# Altium integrated library ON Semi IGBTs.IntLib: 53 symbols (part 2 of 2)
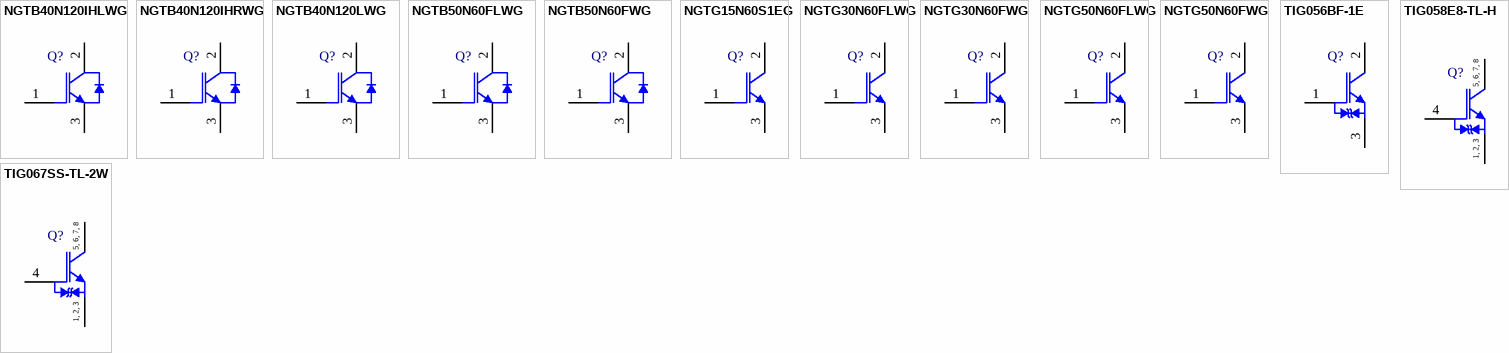
[diagram p2: symbols NGTB40N120IHLWG to TIG067SS-TL-2W]

## NGTG30N60FLWG
designator Q?
IGBT, 30 A, 600 V, 3-Pin TO-247, Pb-Free, Tube; Manufacturer: On Semiconductor; PartNumber: NGTG30N60FLWG; DatasheetVersion: Rev. 2; PackageVersion: Rev. F, 10/2011; PackageReference: TO-247-3-340L-02; PackageDescription: 3-Pin Flange Mount, Vertical Straight Lead, Body 16.005 x 5 mm, Pitch 5.45 mm; Supplier 1: Digi-Key; Supplier Part Number 1: NGTG30N60FLWGOS-ND; Supplier 2: Farnell; Supplier Part Number 2: 2321661; Supplier 3: Newark; Supplier Part Number 3: 90W9279; Supplier 4: Newark; Supplier Part Number 4: 72W2261; Supplier 5: Mouser; Supplier Part Number 5: 863-NGTG30N60FLWG; Packing: Tube; RoHS: Pb-Free; Mounting Technology: Through Hole; ComponentLink1Description: Manufacturer URL; ComponentLink1URL: http://www.onsemi.com/; ComponentLink2Description: Datasheet; ComponentLink2URL: http://www.onsemi.com/pub_link/Collateral/NGTG30N60FLW-D.PDF; ComponentLink3Description: Package Specification; ComponentLink3URL: http://www.onsemi.cn/pub_link/Collateral/340L-02.PDF
footprint ONSC-TO-247-3-340L-02 (FM, 3-Leads, Body 16.3x5.3mm, Pitch 5.45mm)
pins: 1 G, 2 C, 3 E

## NGTG30N60FWG
designator Q?
IGBT, 30 A, 600 V, 3-Pin TO-247, Pb-Free, Tube; Manufacturer: On Semiconductor; PartNumber: NGTG30N60FWG; DatasheetVersion: Rev. 0; PackageVersion: Rev. F, 10/2011; PackageReference: TO-247-3-340L-02; PackageDescription: 3-Pin Flange Mount, Vertical Straight Lead, Body 16.005 x 5 mm, Pitch 5.45 mm; Supplier 1: Digi-Key; Supplier Part Number 1: NGTG30N60FWGOS-ND; Supplier 2: Farnell; Supplier Part Number 2: 2321662; Supplier 3: Newark; Supplier Part Number 3: 90W9280; Supplier 4: Newark; Supplier Part Number 4: 72W2262; Supplier 5: Mouser; Supplier Part Number 5: 863-NGTG30N60FWG; Packing: Tube; RoHS: Pb-Free; Mounting Technology: Through Hole; ComponentLink1Description: Manufacturer URL; ComponentLink1URL: http://www.onsemi.com/; ComponentLink2Description: Datasheet; ComponentLink2URL: http://www.onsemi.com/pub_link/Collateral/NGTG30N60FW.PDF; ComponentLink3Description: Package Specification; ComponentLink3URL: http://www.onsemi.cn/pub_link/Collateral/340L-02.PDF
footprint ONSC-TO-247-3-340L-02 (FM, 3-Leads, Body 16.3x5.3mm, Pitch 5.45mm)
pins: 1 G, 2 C, 3 E

## NGTG50N60FLWG
designator Q?
IGBT, 50 A, 600 V, 3-Pin TO-247, Pb-Free, Tube; Manufacturer: On Semiconductor; PartNumber: NGTG50N60FLWG; DatasheetVersion: Rev. 0; PackageVersion: Rev. F, 10/2011; PackageReference: TO-247-3-340L-02; PackageDescription: 3-Pin Flange Mount, Vertical Straight Lead, Body 16.005 x 5 mm, Pitch 5.45 mm; Supplier 1: Farnell; Supplier Part Number 1: 2321653; Supplier 2: Newark; Supplier Part Number 2: 90W9281; Supplier 3: Newark; Supplier Part Number 3: 60W1764; Supplier 4: Mouser; Supplier Part Number 4: 863-NGTG50N60FLWG; Packing: Tube; RoHS: Pb-Free; Mounting Technology: Through Hole; ComponentLink1Description: Manufacturer URL; ComponentLink1URL: http://www.onsemi.com/; ComponentLink2Description: Datasheet; ComponentLink2URL: http://www.onsemi.com/pub_link/Collateral/NGTG50N60FLW-D.PDF; ComponentLink3Description: Package Specification; ComponentLink3URL: http://www.onsemi.cn/pub_link/Collateral/340L-02.PDF
footprint ONSC-TO-247-3-340L-02 (FM, 3-Leads, Body 16.3x5.3mm, Pitch 5.45mm)
pins: 1 G, 2 C, 3 E

## NGTG50N60FWG
designator Q?
IGBT, 50 A, 600 V, 3-Pin TO-247, Pb-Free, Tube; Manufacturer: On Semiconductor; PartNumber: NGTG50N60FWG; DatasheetVersion: Rev. 0; PackageVersion: Rev. F, 10/2011; PackageReference: TO-247-3-340L-02; PackageDescription: 3-Pin Flange Mount, Vertical Straight Lead, Body 16.005 x 5 mm, Pitch 5.45 mm; Supplier 1: Digi-Key; Supplier Part Number 1: NGTG50N60FWGOS-ND; Supplier 2: Farnell; Supplier Part Number 2: 2321654; Supplier 3: Newark; Supplier Part Number 3: 90W9282; Supplier 4: Newark; Supplier Part Number 4: 72W2263; Supplier 5: Mouser; Supplier Part Number 5: 863-NGTG50N60FWG; Packing: Tube; RoHS: Pb-Free; Mounting Technology: Through Hole; ComponentLink1Description: Manufacturer URL; ComponentLink1URL: http://www.onsemi.com/; ComponentLink2Description: Datasheet; ComponentLink2URL: http://www.onsemi.com/pub_link/Collateral/NGTG50N60FW-D.PDF; ComponentLink3Description: Package Specification; ComponentLink3URL: http://www.onsemi.cn/pub_link/Collateral/340L-02.PDF
footprint ONSC-TO-247-3-340L-02 (FM, 3-Leads, Body 16.3x5.3mm, Pitch 5.45mm)
pins: 1 G, 2 C, 3 E

## TIG056BF-1E
designator Q?
N-Channel IGBT, 430 V, 240 A, 3-Pin TO-220, Pb-Free, Bulk Bag; Manufacturer: On Semiconductor; PartNumber: TIG056BF-1E; IC Max (A): 240; PD Max (W): 30; VCE(sat) Typ (V): 3.6; PackageVersion: Rev. O, 01/2012; PackageReference: TO-220F-3FS-3-221AM; PackageDescription: 3-Pin Flange Mount, Vertical Straight Lead, Body 10.16 x 4.7 mm, Pitch 2.54 mm; Supplier 1: Newark; Supplier Part Number 1: 97W6558; Supplier 2: Mouser; Supplier Part Number 2: 863-TIG056BF-1E; Packing: Bulk Bag; RoHS: Pb-Free; Mounting Technology: Through Hole; ComponentLink1Description: Manufacturer URL; ComponentLink1URL: http://www.onsemi.com/; ComponentLink2Description: Datasheet; ComponentLink2URL: http://www.onsemi.com/pub_link/Collateral/TIG056BF-D.PDF; ComponentLink3Description: Package Specification; ComponentLink3URL: http://www.onsemi.com/pub_link/Collateral/221AM.PDF
footprint ONSC-TO-220F-3FS-3-221AM (FM, 3-Leads, Body 10.4x4.9mm, Pitch 2.54mm)
pins: 1 G, 2 C, 3 E

## TIG058E8-TL-H
designator Q?
N-Channel IGBT, 400 V, 150 A, 8-Pin ECH, Pb-Free, Tape and Reel; Manufacturer: On Semiconductor; PartNumber: TIG058E8-TL-H; IC Max (A): 150; VCE(sat) Typ (V): 4; PackageVersion: Rev. O, 03/2012; PackageReference: ECH-8-318BF; PackageDescription: 8-Pin Small Outline Transistor, Body 2.9 x 2.3 mm, Pitch 0.65 mm; Supplier 1: Digi-Key; Supplier Part Number 1: TIG058E8-TL-H-ND; Supplier 2: Mouser; Supplier Part Number 2: 863-TIG058E8-TL-H; Packing: Tape and Reel; RoHS: Pb-Free; Mounting Technology: Surface Mount; ComponentLink1Description: Manufacturer URL; ComponentLink1URL: http://www.onsemi.com/; ComponentLink2Description: Datasheet; ComponentLink2URL: http://www.onsemi.com/pub_link/Collateral/TIG058E8-D.PDF; ComponentLink3Description: Package Specification; ComponentLink3URL: http://www.onsemi.com/pub_link/Collateral/318BF.PDF
footprint ONSC-ECH-8-318BF_N (SOT23, 8-Leads, Body 2.96x2.36mm, Pitch 0.65mm, IPC Medium Density)
footprint ONSC-ECH-8-318BF_L (SOT23, 8-Leads, Body 2.96x2.36mm, Pitch 0.65mm, IPC High Density)
footprint ONSC-ECH-8-318BF_M (SOT23, 8-Leads, Body 2.96x2.36mm, Pitch 0.65mm, IPC Low Density)
pins: 1 E, 2 E, 3 E, 4 G, 5 C, 6 C, 7 C, 8 C
text: 5, 6, 7, 8; 1, 2, 3

## TIG067SS-TL-2W
designator Q?
N-Channel IGBT, 400 V, 150 A, 8-Pin SOIC, Pb-Free, Tape and Reel; Manufacturer: On Semiconductor; PartNumber: TIG067SS-TL-2W; IC Max (A): 150; PD Max (W): 1.2; VCE(sat) Typ (V): 3.8; PackageReference: SOIC-8-C; PackageDescription: 8-Pin Small Outline Integrated Circuit, Body 4.9 x 3.9 mm, Pitch 1.27 mm; Supplier 1: Newark; Supplier Part Number 1: 60W1996; Supplier 2: Mouser; Supplier Part Number 2: 863-TIG067SS-TL-2W; Packing: Tape and Reel; RoHS: Pb-Free; Mounting Technology: Surface Mount; ComponentLink1Description: Manufacturer URL; ComponentLink1URL: http://www.onsemi.com/; ComponentLink2Description: Datasheet; ComponentLink2URL: http://www.onsemi.com/pub_link/Collateral/ENA1067-D.PDF; ComponentLink3Description: Package Specification; ComponentLink3URL: http://www.onsemi.com/pub_link/Collateral/ENA1067-D.PDF
footprint ONSC-SOIC-8-C_V (SOIC, 8-Leads, Body 4.9x3.9mm, Pitch 1.27mm)
pins: 1 E, 2 E, 3 E, 4 G, 5 C, 6 C, 7 C, 8 C
text: 5, 6, 7, 8; 1, 2, 3